# EAGLE library part 62201421821 (library Board-to-Board (rev18a))
WR-PHD 1.27mm Dual Socket Header, 14 Pins=>Code : Con_BTB_SHD_1.27_2_62201421821 <http://katalog.we-online.de/media/thumbs2/eican/thb_Con_BTB_SHD_1.27_2_6220xx21821_pf2.jpg> Details see: http://katalog.we-online.de/en/em/PHD_1_27_DUAL_SOCKET_HEADER_6220XX21821 Created 2014-06-04, Karrer Zheng 2014 (C) Würth Elektronik
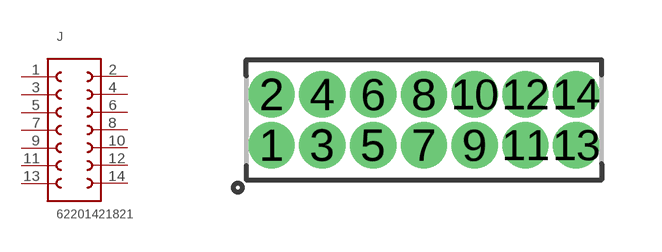
[diagram p290: symbol with the pads of 62201421821; footprint 62201421821]

Designator prefix J

## 62201421821  [62201421821]
1  1  pas
2  14  pas
3  2  pas
4  13  pas
5  3  pas
6  12  pas
7  4  pas
8  11  pas
9  5  pas
10  10  pas
11  6  pas
12  9  pas
13  7  pas
14  8  pas

## Footprint 62201421821 (pad centres in mm)
WR-PHD 1.27mm Dual Socket Header, 14 Pins
drill 0.65: 1 -3.81,-0.635; 2 -3.81,0.635; 3 -2.54,-0.635; 4 -2.54,0.635; 5 -1.27,-0.635; 6 -1.27,0.635; 7 0,-0.635; 8 0,0.635; 9 1.27,-0.635; 10 1.27,0.635; 11 2.54,-0.635; 12 2.54,0.635; 13 3.81,-0.635; 14 3.81,0.635